# EAGLE library part LED_TACTILE_BUTTON (library ArcadeMachine)
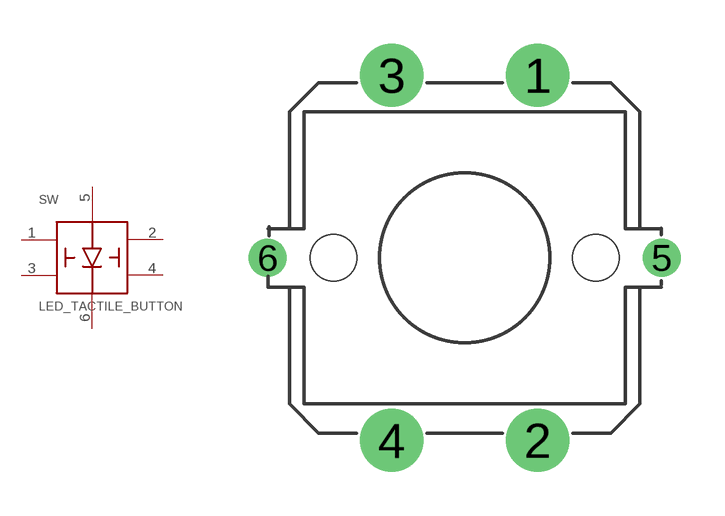
[diagram p2: symbol with the pads of LED_TACTILE_BUTTON; footprint LED_TACTILE_BUTTON]

Designator prefix SW

## LED_TACTILE_BUTTON  [LED_TACTILE_BUTTON]
1  1
2  2
3  3
4  4
5  5
6  6

## Footprint LED_TACTILE_BUTTON (pad centres in mm)
drill 1.2 pad 2.159: 1 2.5,6.25; 2 2.5,-6.25; 3 -2.5,6.25; 4 -2.5,-6.25
drill 0.8: 5 6.75,0; 6 -6.75,0
hole 1.6 at -4.5,0
hole 1.6 at 4.5,0